# Altium schematic symbol library IM73A135.SchLib: 1 symbol
Pins are listed as number, name and electrical type; pins without a type are passive.

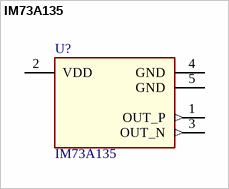
[diagram p0: symbol IM73A135]

## IM73A135
designator U?
Dust and Water Resistant Analog XENSIV MEMS Microphone; Multiple Parts: No; Alternate View: Yes; Symbol Type: Dust and Water Resistant Analog XENSIV MEMS Microphone
footprint IFX-PG-LLGA-5-2-V (Microphone, SMD, 5 pin, 4.00 mm L X 3.00 mm W X 1.28 mm H body)
pins: 1 OUT_P (out) "Differential Output +", 2 VDD (power) "Power supply", 3 OUT_N (out) "Differential Output -", 4 GND (power) "Ground", 5 GND (power) "Ground"